# Altium schematic symbol library Main Board.SCHLIB: 63 symbols (part 3 of 3)
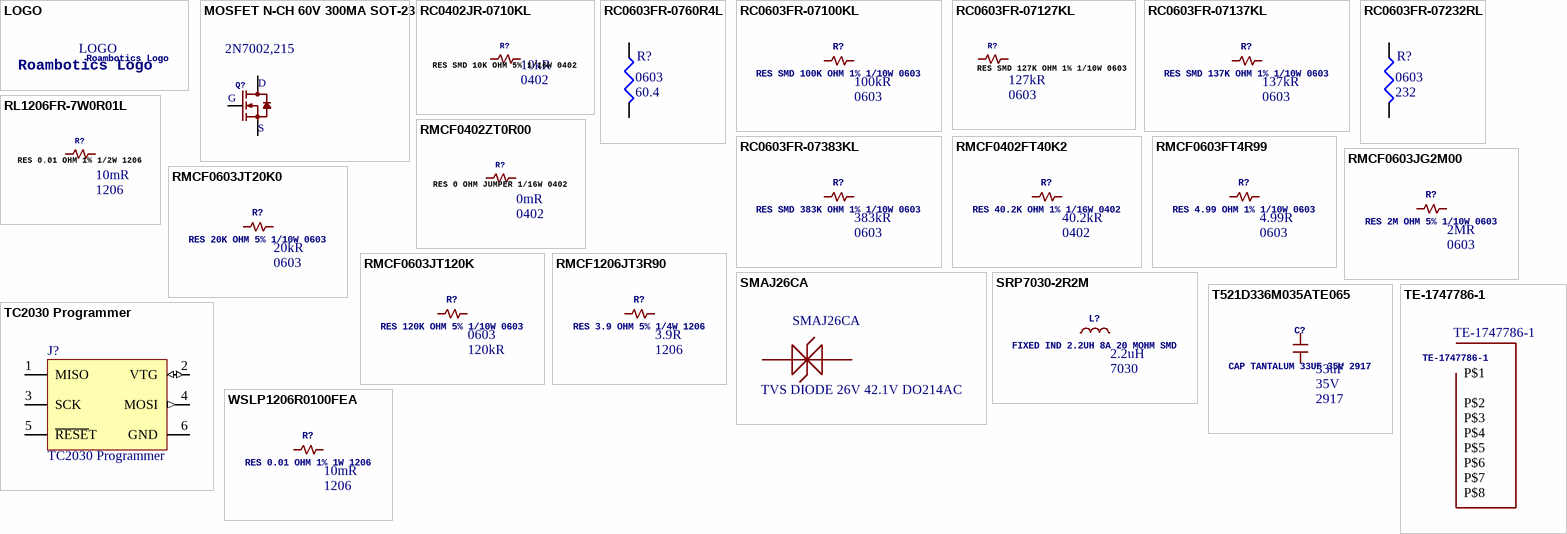
[diagram p3: symbols LOGO to WSLP1206R0100FEA]

## RMCF0603JT120K
designator R?, comment RES 120K OHM 5% 1/10W 0603  Case/Package: 0603  Resistance: 120kR
120 kOhms ±5% 0.1W, 1/10W Chip Resistor 0603 (1608 Metric) Automotive AEC-Q200 Thick Film; Manufacturer: Stackpole Electronics; Manufacturer Part Number: RMCF0603JT120K; Power Rating: 100mW; Temperature Coefficient: 200ppm/°C; Supplier 1: Digi-Key; Stock 1: 8647; Pricing 1: 1 = 0.10000, 10 = 0.01500, 100 = 0.00610, 1000 = 0.00275, 2500 = 0.00239 (USD); RoHS: Yes; Mount: Surface Mount; Case Code (Metric): 1608; Case Code (Imperial): 0603; Contact Plating: Tin; Min Operating Temperature: -55°C; Max Operating Temperature: 155°C; Tolerance: 5%; Packaging: Tape and Reel; Composition: Thick Film; Number of Terminations: 2; Max Power Dissipation: 100mW; Features: Automotive AEC-Q200; Length: 0.061inch; Height: 0.022inch; Width: 0.031inch; Radiation Hardening: No; Lead Free: Lead Free; ComponentLink1URL: https://www.seielect.com/Catalog/SEI-RMCF_RMCP.pdf?src-supplier=Digi-Key; ComponentLink1Description: https://www.seielect.com/Catalog/SEI-RMCF_RMCP.pdf?src-supplier=Digi-Key; ComponentLink2URL: https://www.seielect.com/catalog/SEI-RMCF_RMCP.pdf?src-supplier=Avnet; ComponentLink2Description: https://www.seielect.com/catalog/SEI-RMCF_RMCP.pdf?src-supplier=Avnet; ComponentLink3URL: http://www.seielect.com/catalog/sei-rmc.pdf?src-supplier=Future+Electronics; ComponentLink3Description: http://www.seielect.com/catalog/sei-rmc.pdf?src-supplier=Future+Electronics; Supplier Part Number 1: RMCF0603JT120KCT-ND
footprint 0603
pins: P$1, P$2

## RMCF1206JT3R90
designator R?, comment RES 3.9 OHM 5% 1/4W 1206  Case/Package: 1206  Resistance: 3.9R
3.9 Ohms ±5% 0.25W, 1/4W Chip Resistor 1206 (3216 Metric) Automotive AEC-Q200 Thick Film; Manufacturer: Stackpole Electronics; Manufacturer Part Number: RMCF1206JT3R90; Max Power Dissipation: 250mW; Temperature Coefficient: 200ppm/°C; Supplier 1: Digi-Key; Stock 1: 4572; Pricing 1: 1 = 0.10000, 10 = 0.03300, 100 = 0.01360, 1000 = 0.00612, 2500 = 0.00531 (USD); RoHS: Yes; Mount: Surface Mount; Contact Plating: Tin; Min Operating Temperature: -55°C; Max Operating Temperature: 155°C; Packaging: Tape and Reel; Tolerance: 5%; Composition: Thick Film; Number of Terminations: 2; Features: Automotive AEC-Q200; Length: 0.126inch; Height: 0.028inch; Width: 0.063inch; Radiation Hardening: No; ComponentLink1URL: https://www.seielect.com/catalog/SEI-RMCF_RMCP.pdf?src-supplier=Avnet; ComponentLink1Description: https://www.seielect.com/catalog/SEI-RMCF_RMCP.pdf?src-supplier=Avnet; ComponentLink2URL: https://www.seielect.com/Catalog/SEI-RMCF_RMCP.pdf?src-supplier=Digi-Key; ComponentLink2Description: https://www.seielect.com/Catalog/SEI-RMCF_RMCP.pdf?src-supplier=Digi-Key; Supplier Part Number 1: RMCF1206JT3R90CT-ND
footprint 1206
pins: P$1, P$2

## SMAJ26CA
designator D?, comment TVS DIODE 26V 42.1V DO214AC  Manufacturer Part Number: SMAJ26CA
42.1V Clamp 9.5A Ipp Tvs Diode Surface Mount DO-214AC (SMA); Manufacturer: Littelfuse; Direction: Bidirectional; Min Breakdown Voltage: 28.9V; Peak Pulse Power: 400W; Number of Channels: 1; Test Current: 1mA; Power Line Protection: No; Max Breakdown Voltage: 31.9V; Max Power Dissipation: 3.3W; Leakage Current: 1uA; Supplier 1: Digi-Key; Stock 1: 19712; Pricing 1: 1 = 0.57000, 10 = 0.44600, 25 = 0.37600, 100 = 0.30590, 250 = 0.25348, 500 = 0.20980, 1000 = 0.15734, 2500 = 0.14423 (USD); RoHS: Yes; Mount: Surface Mount; Number of Pins: 2; Min Operating Temperature: -55°C; Max Operating Temperature: 150°C; Package Quantity: 5000; Packaging: Tape and Reel; Operating Supply Voltage: 26V; Max Surge Current: 9.5A; Reverse Standoff Voltage: 26V; Clamping Voltage: 42.1V; Breakdown Voltage: 28.9V; Polarity: Bidirectional; Peak Pulse Current: 9.5A; Voltage Rating (DC): 26V; Reverse Breakdown Voltage: 28.9V; Number of Bidirectional Channels: 1; Termination: SMD/SMT; Power Dissipation: 400W; Number of Elements: 1; Composition: Zener; Length: 5.28mm; Height: 2.29mm; Width: 2.79mm; Lead Free: Lead Free; REACH SVHC: No SVHC; ComponentLink1URL: https://datasheet.ciiva.com/331/littelfuse-tvs-diode-smaj-datasheet-pdf-331088.pdf?src-supplier=Digi-Key; ComponentLink1Description: https://datasheet.ciiva.com/331/littelfuse-tvs-diode-smaj-datasheet-pdf-331088.pdf?src-supplier=Digi-Key; ComponentLink2URL: https://datasheet.ciiva.com/331/littelfuse-tvs-diode-smaj-datasheet-pdf-331089.pdf?src-supplier=Digi-Key; ComponentLink2Description: https://datasheet.ciiva.com/331/littelfuse-tvs-diode-smaj-datasheet-pdf-331089.pdf?src-supplier=Digi-Key; ComponentLink3URL: https://datasheet.ciiva.com/4509/littelfuse-tvs-diode-smaj-23503-4509438.pdf?src-supplier=Mouser; ComponentLink3Description: https://datasheet.ciiva.com/4509/littelfuse-tvs-diode-smaj-23503-4509438.pdf?src-supplier=Mouser; ComponentLink4URL: https://datasheet.ciiva.com/331/littelfuse-tvs-diode-smaj-datasheet-pdf-331087.pdf?src-supplier=Digi-Key; ComponentLink4Description: https://datasheet.ciiva.com/331/littelfuse-tvs-diode-smaj-datasheet-pdf-331087.pdf?src-supplier=Digi-Key; Supplier Part Number 1: SMAJ26CALFCT-ND
footprint DO-214AC
pins: P$1, P$2

## SRP7030-2R2M
designator L?, comment FIXED IND 2.2UH 8A 20 MOHM SMD  Inductance: 2.2uH  Case/Package: 7030
2.2µH Shielded Wirewound Inductor 8A 20mOhm Max Nonstandard; Manufacturer: Bourns; Manufacturer Part Number: SRP7030-2R2M; Core Material: Ferrite; Tolerance: 20%; DC Resistance (DCR): 20mR; Saturation Current: 11A; Test Frequency: 100kHz; RMS Current (Irms): 7A; Supplier 1: Digi-Key; Stock 1: 6948; Pricing 1: 1 = 1.49000, 10 = 1.38300, 100 = 0.99990, 500 = 0.76590 (USD); RoHS: Yes; Mount: Surface Mount; Number of Pins: 2; Material: Ferrite; Min Operating Temperature: -55°C; Max Operating Temperature: 150°C; Max DC Current: 8A; Inductance Tolerance: 20%; Packaging: Cut Tape; Shielding: Shielded; Package Quantity: 1000; Current Rating: 8A; Resistance: 20MR; Composition: Wirewound; Termination: SMD/SMT; DC Current: 8A; Military Standard: Not; Length: 7.8mm; Height: 3.2mm; Depth: 7mm; Width: 7mm; Height - Seated (Max): 0.126inch; REACH SVHC: No SVHC; ComponentLink1URL: https://datasheet.ciiva.com/11802/0900766b80f2b677-11802764.pdf?src-supplier=RSComponents; ComponentLink1Description: https://datasheet.ciiva.com/11802/0900766b80f2b677-11802764.pdf?src-supplier=RSComponents; ComponentLink2URL: https://datasheet.ciiva.com/8515/srp7030-8515669.pdf?src-supplier=Avnet; ComponentLink2Description: https://datasheet.ciiva.com/8515/srp7030-8515669.pdf?src-supplier=Avnet; ComponentLink3URL: https://datasheet.ciiva.com/6693/srp7030-6693881.pdf?src-supplier=Digi-Key; ComponentLink3Description: https://datasheet.ciiva.com/6693/srp7030-6693881.pdf?src-supplier=Digi-Key; ComponentLink4URL: https://datasheet.ciiva.com/8515/srp7030-8515673.pdf?src-supplier=Avnet; ComponentLink4Description: https://datasheet.ciiva.com/8515/srp7030-8515673.pdf?src-supplier=Avnet; ComponentLink5URL: https://datasheet.ciiva.com/6693/srp7030-6693882.pdf?src-supplier=Digi-Key; ComponentLink5Description: https://datasheet.ciiva.com/6693/srp7030-6693882.pdf?src-supplier=Digi-Key; ComponentLink6URL: https://datasheet.ciiva.com/17037/70277168-17037466.pdf?src-supplier=Allied+Electronics; ComponentLink6Description: https://datasheet.ciiva.com/17037/70277168-17037466.pdf?src-supplier=Allied+Electronics; ComponentLink7URL: https://datasheet.ciiva.com/17247/srp7030-17247611.pdf?src-supplier=Avnet+Europe; ComponentLink7Description: https://datasheet.ciiva.com/17247/srp7030-17247611.pdf?src-supplier=Avnet+Europe; ComponentLink8URL: https://datasheet.ciiva.com/7849/1837085-7849567.pdf?src-supplier=Element14; ComponentLink8Description: https://datasheet.ciiva.com/7849/1837085-7849567.pdf?src-supplier=Element14; ComponentLink9URL: https://datasheet.ciiva.com/48691/001056511-da-01-en-mag-abgesch-l-ind-srp7030-2r2m-2-2uh-20-48691803.pdf?src-supplier=Conrad; ComponentLink9Description: https://datasheet.ciiva.com/48691/001056511-da-01-en-mag-abgesch-l-ind-srp7030-2r2m-2-2uh-20-48691803.pdf?src-supplier=Conrad; Supplier Part Number 1: SRP7030-2R2MCT-ND
footprint IND_BOURNS_SRP7030-M
pins: 1 P$1, 2 P$2

## T521D336M035ATE065
designator C?, comment CAP TANTALUM 33UF 35V 2917  Voltage Rating: 35V  Capacitance: 33uF  Case/Package: 2917
33µF Molded Tantalum Polymer Capacitor 35V 2917 (7343 Metric) 65mOhm @ 100kHz; Manufacturer: KEMET; Manufacturer Part Number: T521D336M035ATE065; Tolerance: 20%; ESR (Equivalent Series Resistance): 65mR; Polarity: Polar; Life (Hours): 2000Hour; Dissipation Factor: 10%; Supplier 1: Digi-Key; Stock 1: 43968; Pricing 1: 1 = 3.39000, 10 = 2.73100, 100 = 2.13040 (USD); RoHS: Yes; Mount: Surface Mount; Case Code (Metric): 7343; Case Code (Imperial): 2917; Min Operating Temperature: -55°C; Max Operating Temperature: 125°C; Packaging: Tape and Reel; Package Quantity: 1; Voltage Rating (DC): 35V; Termination: SMD/SMT; Features: General Purpose; Length: 7.3mm; Height: 2.8mm; Width: 0.169inch; Height - Seated (Max): 0.122inch; Depth: 4.3mm; REACH SVHC: No SVHC; ComponentLink1URL: https://datasheet.ciiva.com/6247/datasheetpn-t521d336m035ate065-6247290.pdf?src-supplier=Digi-Key; ComponentLink1Description: https://datasheet.ciiva.com/6247/datasheetpn-t521d336m035ate065-6247290.pdf?src-supplier=Digi-Key; ComponentLink2URL: https://datasheet.ciiva.com/5459/kem-t2016-t521-535640-5459610.pdf?src-supplier=Mouser; ComponentLink2Description: https://datasheet.ciiva.com/5459/kem-t2016-t521-535640-5459610.pdf?src-supplier=Mouser; ComponentLink3URL: https://datasheet.ciiva.com/6247/kem-t2016-t521-6247291.pdf?src-supplier=Digi-Key; ComponentLink3Description: https://datasheet.ciiva.com/6247/kem-t2016-t521-6247291.pdf?src-supplier=Digi-Key; ComponentLink4URL: https://datasheet.ciiva.com/7759/1446013-7759035.pdf?src-supplier=Element14; ComponentLink4Description: https://datasheet.ciiva.com/7759/1446013-7759035.pdf?src-supplier=Element14; ComponentLink5URL: https://datasheet.ciiva.com/6247/kem-t2016-t521-6247292.pdf?src-supplier=Digi-Key; ComponentLink5Description: https://datasheet.ciiva.com/6247/kem-t2016-t521-6247292.pdf?src-supplier=Digi-Key; Supplier Part Number 1: 399-9786-1-ND
footprint 1206
pins: P$1, P$2

## TC2030 Programmer
designator J?  (no BOM)
Manufacturer Part Number: TC2030 6-pin programmer; Manufacturer: Tag-Connect
footprint TC2030 (Footprint not found)
pins: 1 MISO (power), 2 VTG (io), 3 SCK, 4 MOSI (out), 5 ~{RESE}T (power), 6 GND

## TE-1747786-1
designator CON?
GateName_1: G$1; SymbolName_1: TE-1747786-1; LibraryName: Roambotics; DeviceSetName: TE-1747786-1; TE-1747786-1: TE-1747786-1
footprint TE-1747786-1 (Footprint not found)
pins: P$1, P$2, P$3, P$4, P$5, P$6, P$7, P$8

## WSLP1206R0100FEA
designator R?, comment RES 0.01 OHM 1% 1W 1206  Case/Package: 1206  Resistance: 10mR
10 mOhms ±1% 1W Chip Resistor 1206 (3216 Metric) Anti-Sulfur, Automotive AEC-Q200, Current Sense, Moisture Resistant, Pulse Withstanding Metal Element; Manufacturer: Vishay Dale; Manufacturer Part Number: WSLP1206R0100FEA; Temperature Coefficient: 75ppm/°C; Supplier 1: Digi-Key; Stock 1: 312015; Pricing 1: 1 = 0.88000, 10 = 0.76200, 25 = 0.67000, 50 = 0.61220, 100 = 0.53130, 250 = 0.46200, 500 = 0.38346, 1000 = 0.31185 (USD); RoHS: Yes; Mount: Surface Mount; Number of Pins: 2; Weight: 0.000571oz; Contact Plating: Tin; Case Code (Metric): 3216; Case Code (Imperial): 1206; Min Operating Temperature: -65°C; Max Operating Temperature: 170°C; Tolerance: 1%; Power Rating: 1W; Composition: Metal Element; Package Quantity: 1; Packaging: Tape and Reel; Number of Terminations: 2; Termination: SMD/SMT; Military Standard: Not; Max Power Dissipation: 1W; Features: Moisture Resistant; Length: 3.2mm; Height: 0.635mm; Width: 0.063inch; Depth: 1.6mm; Radiation Hardening: No; REACH SVHC: Unknown; Lead Free: Lead Free; ComponentLink1URL: https://datasheet.ciiva.com/2482/wslp-2482962.pdf?src-supplier=Digi-Key; ComponentLink1Description: https://datasheet.ciiva.com/2482/wslp-2482962.pdf?src-supplier=Digi-Key; ComponentLink2URL: https://datasheet.ciiva.com/2482/wslp-2482963.pdf?src-supplier=Digi-Key; ComponentLink2Description: https://datasheet.ciiva.com/2482/wslp-2482963.pdf?src-supplier=Digi-Key; ComponentLink3URL: https://datasheet.ciiva.com/2482/wslp-2482964.pdf?src-supplier=Digi-Key; ComponentLink3Description: https://datasheet.ciiva.com/2482/wslp-2482964.pdf?src-supplier=Digi-Key; ComponentLink4URL: https://datasheet.ciiva.com/46412/1813044-46412936.pdf?src-supplier=Element14; ComponentLink4Description: https://datasheet.ciiva.com/46412/1813044-46412936.pdf?src-supplier=Element14; ComponentLink5URL: https://datasheet.ciiva.com/46412/1813044-46412937.pdf?src-supplier=Element14; ComponentLink5Description: https://datasheet.ciiva.com/46412/1813044-46412937.pdf?src-supplier=Element14; Supplier Part Number 1: WSLP-.01CT-ND
footprint 1206
pins: P$1, P$2